# EAGLE library part 750030399 (library Wurth Electronics Midcom Inc V1-0)
Package Style: Speedy EFD15 4.55W SMD Mounting: SMD Pins: 10 pins Bobbin: 070-2644 Windings Primary: 4.75 - 16VDC, 100k - 250kHz Secondary: 5.0VDC, 460mADC Secondary: 12.0VDC, 93mADC Secondary: 12.0VDC, 93mADC Best pinouts for production vary per application. Please contact Wurth Electronics Midcom, Inc. for assistance with your custom design. Datasheet: 750030399 <http://www.we-online.com/web/en/index.php/show/media/passive_components_-_custom_magnetics/pdf_doc_files/spec_sheets/32000/30399R-LF1.pdf> Website: Wurth Electronics Midcom <http://www.we-online.com/midcom> Contact us Wurth Electronics Midcom, Inc. 121 Airport Dr. Watertown, SD 57201 Phone: (605) 886-4385 Fax: (605) 886-4486 E-Mail: midcom@we-online.com
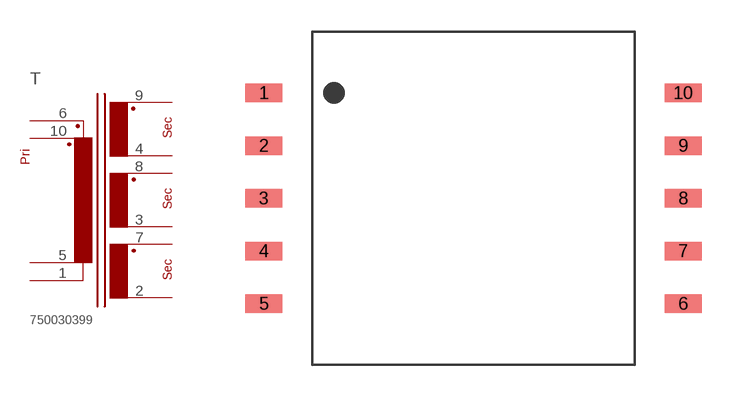
[diagram p4: symbol with the pads of 00SPEEDY_EFD15_SMD_10PIN; footprint 00SPEEDY_EFD15_SMD_10PIN]

Designator prefix T

## 750030399  [00SPEEDY_EFD15_SMD_10PIN]
1  2  pas
2  10  pas
3  8  pas
4  6  pas
5  4  pas
6  1  pas
7  9  pas
8  7  pas
9  5  pas
10  3  pas

## Footprint 00SPEEDY_EFD15_SMD_10PIN (pad centres in mm)
Package Style: Speedy EFD15 Mounting: SMD Pins: 10 pins Bobbin: 070-2644
smd 1.753 x 0.864: 1 -9.893,4.978; 2 -9.893,2.489; 3 -9.893,0; 4 -9.893,-2.489; 5 -9.893,-4.978; 6 9.893,-4.978; 7 9.893,-2.489; 8 9.893,0; 9 9.893,2.489; 10 9.893,4.978